# Altium footprint library DMX512.PcbLib: 32 footprints (part 1 of 2)
Each footprint in its own frame and in the unit in brackets; x right, y up, seen from the top. Pads: shape width x height; smd on the part's side, far side on the other; paste and mask are expansions set on the pad; w line width, h text height; cw(c..) or ccw(c..) is an arc to the next point about the centre after c.
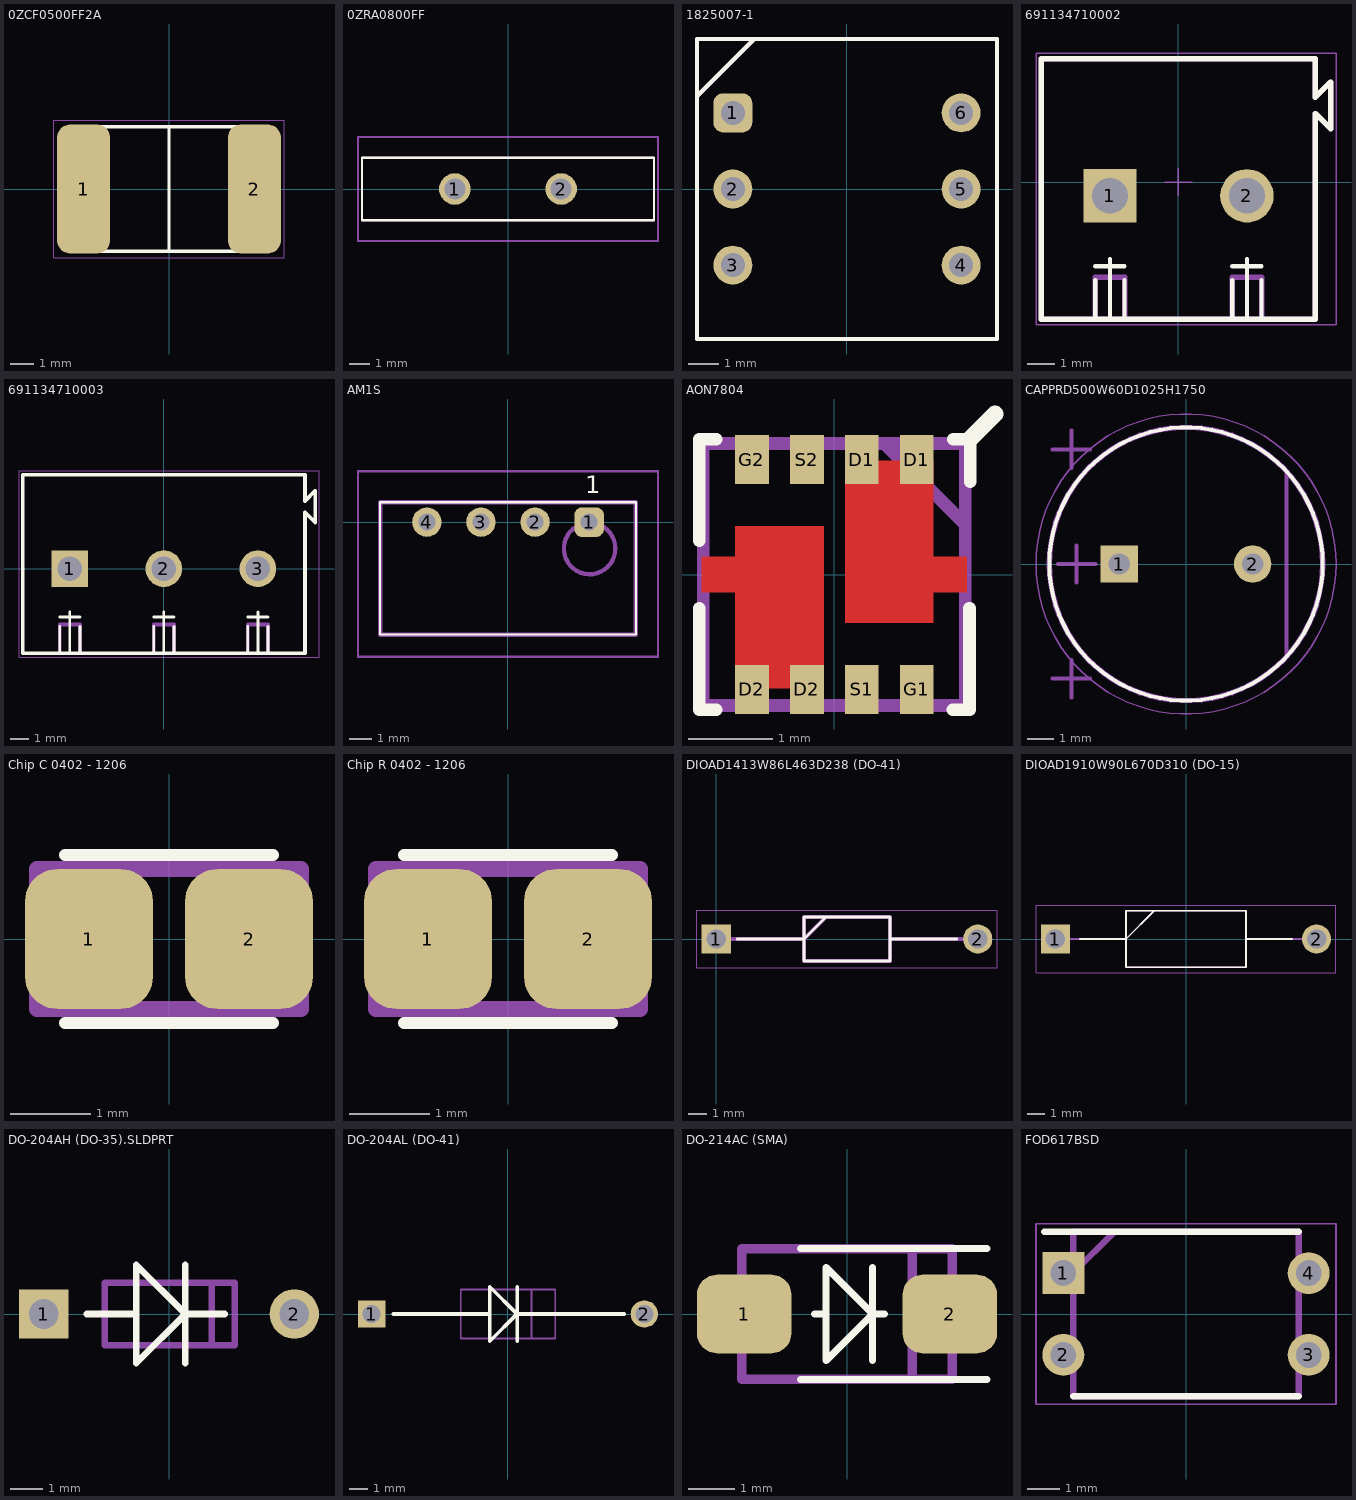
[diagram p0: the footprints below, top view; thin cyan lines are the x and y axes]

## 0ZCF0500FF2A [mm]
height 1.5
pads (2):
  rrect50% 2.3x5.6 smd: 1(-3.7,0) 2(3.7,0)
Top Overlay:
  lines w0.15: 0,-2.7 0,2.7 ; -4,-2.7 4,-2.7 4,2.7 -4,2.7 -4,-2.7
Mechanical 13:
  lines w0.1: -4,-2.7 4,-2.7 4,2.7 -4,2.7 -4,-2.7
Mechanical 15:
  lines w0.05: -5,-2.975 5,-2.975 5,2.975 -5,2.975 -5,-2.975
3D body "0ZCF0300AF2C.stp": height 1.15, standoff 0, extent -3.677,-2.56 3.678,2.56

## 0ZRA0800FF [mm]
height 20.9
pads (2):
  round 1.515 hole 1.01: 1(-2.55,0) 2(2.55,0)
Top Overlay:
  lines w0.1: -7,-1.5 7,-1.5 7,1.5 -7,1.5 -7,-1.5
Mechanical 13:
  lines w0.1: -7,-1.5 7,-1.5 7,1.5 -7,1.5 -7,-1.5
Mechanical 15:
  lines w0.1: -7.2,-2.5 7.2,-2.5 7.2,2.5 -7.2,2.5 -7.2,-2.5
3D body "User Library-MF-R300.step": height 16, standoff -9.9, extent -6,-1.5 6,1.54

## 1825007-1 [mm]
pads (6):
  rrect50% 1.3x1.3 hole 0.8: 1(-3.81,2.54)
  round 1.3 hole 0.8: 2(-3.81,0) 3(-3.81,-2.54) 4(3.81,-2.54) 5(3.81,0) 6(3.81,2.54)
Top Overlay:
  lines w0.15: -5,3.1 -3.1,5 ; -5.004,-5.004 -5.004,5.004 5.004,5.004 5.004,-5.004 -5.004,-5.004
Mechanical 13:
  lines w0.15: -5,3.1 -3.1,5 ; -5.004,-5.004 -5.004,5.004 5.004,5.004 5.004,-5.004 -5.004,-5.004
3D body "c-1825007-1-a-3d.stp": height 5.99, standoff -3.71, extent -5.004,-5.004 5.004,5.004

## 691134710002 [mm] "Serie 1347 - 5.00 mm_2 pins"
height 13
pads (2):
  rect 1.95x1.95 hole 1.3: 1(-2.5,-0.5)
  round 1.95 hole 1.3: 2(2.5,-0.5)
Top Overlay:
  lines w0.15: -3.037,-5 -3.037,-3.569 ; -3.037,-3.069 -2.5,-3.069 -1.963,-3.069 ; -2.5,-5 -2.5,-2.8 ; -1.963,-5 -1.963,-3.569 ; 1.963,-5 1.963,-3.569 ; 1.963,-3.069 2.5,-3.069 3.037,-3.069 ; 2.5,-5 2.5,-2.8 ; 3.037,-5 3.037,-3.569
  lines w0.2: -5,-5 -5,4.5 5,4.5 5,3.1 5.55,3.65 5.55,1.95 5,2.5 5,-5 -5,-5
Mechanical 13:
  lines w0.2: -3.037,-5 -3.037,-3.469 -2.5,-3.469 -1.963,-3.469 -1.963,-5 ; 1.963,-5 1.963,-3.469 2.5,-3.469 3.037,-3.469 3.037,-5 ; -5,-5 5,-5 5,2.5 5.55,1.95 5.55,3.65 5,3.1 5,4.5 -5,4.5 -5,-5
Mechanical 15:
  lines w0.05: -0.5,0 0.5,0 ; 0,-0.5 0,0.5 ; -5.2,-5.2 5.75,-5.2 5.75,4.7 -5.2,4.7 -5.2,-5.2
3D body "691134710002.stp": height 13.1, standoff -3.9, extent -5,-4.5 5.55,4.5

## 691134710003 [mm] "Serie 1347 - 5.00 mm_3 pins"
height 13
pads (3):
  rect 1.95x1.95 hole 1.3: 1(-5,0)
  round 1.95 hole 1.3: 2(0,0) 3(5,0)
Top Overlay:
  lines w0.15: -5.537,-4.5 -5.537,-3.069 ; -5.537,-2.569 -5,-2.569 -4.463,-2.569 ; -5,-4.5 -5,-2.3 ; -4.463,-4.5 -4.463,-3.069 ; -0.537,-4.5 -0.537,-3.069 ; -0.537,-2.569 0,-2.569 0.537,-2.569 ; 0,-4.5 0,-2.3 ; 0.537,-4.5 0.537,-3.069 ; 4.463,-4.5 4.463,-3.069 ; 4.463,-2.569 5,-2.569 5.537,-2.569 ; 5,-4.5 5,-2.3 ; 5.537,-4.5 5.537,-3.069
  lines w0.2: -7.5,-4.5 -7.5,5 7.5,5 7.5,3.6 8.05,4.15 8.05,2.45 7.5,3 7.5,-4.5 -7.5,-4.5
Mechanical 13:
  lines w0.1: -7.5,-4.5 -7.5,5 7.5,5 7.5,3.6 8.05,4.15 8.05,2.45 7.5,3 7.5,-4.5 -7.5,-4.5
  lines w0.2: -5.537,-4.5 -5.537,-2.969 -5,-2.969 -4.463,-2.969 -4.463,-4.5 ; -0.537,-4.5 -0.537,-2.969 0,-2.969 0.537,-2.969 0.537,-4.5 ; 4.463,-4.5 4.463,-2.969 5,-2.969 5.537,-2.969 5.537,-4.5
Mechanical 15:
  lines w0.05: -0.5,0.5 0.5,0.5 ; 0,0 0,1 ; -7.7,-4.7 -7.7,5.2 8.25,5.2 8.25,-4.7 -7.7,-4.7
3D body "691134710003.stp": height 13.1, standoff -3.9, extent -7.5,-4 8.05,5

## AM1S [mm]
pads (4):
  rrect50% 1.337x1.337 hole 0.78: 1(3.675,0)
  round 1.337 hole 0.78: 2(1.225,0) 3(-1.225,0) 4(-3.675,0)
Top Overlay:
  lines w0.1: -5.8,-5.1 5.8,-5.1 5.8,0.9 -5.8,0.9 -5.8,-5.1
  text "1" at 3.5,1.3 h0.8
Mechanical 13:
  circle w0.2: c3.7,-1.2 r1.166
  lines w0.2: -5.8,-5.1 5.8,-5.1 5.8,0.9 -5.8,0.9 -5.8,-5.1
Mechanical 15:
  lines w0.1: -6.8,-6.1 6.8,-6.1 6.8,2.3 -6.8,2.3 -6.8,-6.1
3D body "User Library-AM1S-Z.step": height 10.15, standoff -3.05, extent -5.842,-5.2 5.842,0.9

## AON7804 [mm]
pads (8):
  rect 0.4x0.58 smd: D1(0.325,1.36) D1(0.975,1.36) D2(-0.975,-1.36) D2(-0.325,-1.36) G1(0.975,-1.36) G2(-0.975,1.36) S1(0.325,-1.36) S2(-0.325,1.36)
Top Layer:
  rectangle: 0.125,-0.575 1.175,1.35
  rectangle: 1.1,-0.215 1.572,0.215
  region: -0.125,0.575 -1.175,0.575 -1.175,-1.35 -0.125,-1.35
  region: -1.1,0.215 -1.572,0.215 -1.572,-0.215 -1.1,-0.215
Top Overlay:
  lines w0.15: -1.6,0.4 -1.6,1.6 -1.4,1.6 ; -1.597,-0.398 -1.597,-1.598 -1.397,-1.598 ; 1.4,-1.6 1.6,-1.6 1.6,-0.4 ; 1.408,1.602 1.608,1.602 1.608,1.1
  lines w0.2: 1.6,1.6 1.9,1.9
Top Paste:
  region: -0.125,0.575 -1.175,0.575 -1.175,-1.35 -0.125,-1.35
  region: -1.1,0.215 -1.572,0.215 -1.572,-0.215 -1.1,-0.215
  rectangle: 0.125,-0.575 1.175,1.35
  rectangle: 1.1,-0.215 1.572,0.215
Top Solder:
  region: -0.125,0.575 -1.175,0.575 -1.175,-1.35 -0.125,-1.35
  region: -1.1,0.215 -1.572,0.215 -1.572,-0.215 -1.1,-0.215
  rectangle: 0.125,-0.575 1.175,1.35
  rectangle: 1.1,-0.215 1.572,0.215
Mechanical 13:
  lines w0.15: 0.59,1.55 1.55,0.59 ; -1.55,-1.55 -1.55,1.55 1.55,1.55 1.55,-1.55 -1.55,-1.55
3D body: height 0.9, standoff 0, extent -1.55,-1.55 1.55,1.55

## CAPPRD500W60D1025H1750 [mm]
pads (2):
  rect 1.4x1.4 hole 0.8: 1(-2.5,0)
  round 1.4 hole 0.8: 2(2.5,0)
Top Overlay:
  circle w0.15: c0,0 r5.125
Bottom Overlay:
  lines w0.15: -5,-4.3 -3.6,-4.3 ; -5,4.3 -3.6,4.3 ; -4.8,0 -3.4,0 ; -4.3,-5 -4.3,-3.6 ; -4.3,3.6 -4.3,5 ; -4.1,-0.7 -4.1,0.7 ; 3.776,-3.466 3.776,3.465
Mechanical 13:
  circle w0.2: c0,0 r5.125
  lines w0.15: -5,-4.3 -3.6,-4.3 ; -5,4.3 -3.6,4.3 ; -4.8,0 -3.4,0 ; -4.3,-5 -4.3,-3.6 ; -4.3,3.6 -4.3,5 ; -4.1,-0.7 -4.1,0.7 ; 3.776,-3.466 3.776,3.465
Mechanical 15:
  circle w0.05: c0,0 r5.625
3D body "User Library-CE_R200_D400_H800.step": height 20.32, standoff -2.9, extent -5.08,-5.079 5.08,5.08

## Chip C 0402 - 1206 [mm]
height 0.61
pads (2):
  rrect50% 1.6x1.75 smd: 1(-1,0) 2(1,0)
Top Overlay:
  lines w0.15: -1.3,-1.05 1.3,-1.05 ; -1.3,1.05 1.3,1.05
Mechanical 13:
  lines w0.2: -1.65,-0.875 1.65,-0.875 1.65,0.875 -1.65,0.875 -1.65,-0.875
3D body "User Library-1206 SMD Capacitor.step": height 1, standoff 0, extent -1.6,-0.8 1.6,0.8

## Chip R 0402 - 1206 [mm]
height 0.61
pads (2):
  rrect50% 1.6x1.75 smd: 1(-1,0) 2(1,0)
Top Overlay:
  lines w0.15: -1.3,-1.05 1.3,-1.05 ; -1.3,1.05 1.3,1.05
Mechanical 13:
  lines w0.2: -1.65,-0.875 1.65,-0.875 1.65,0.875 -1.65,0.875 -1.65,-0.875
3D body "User Library-RES_SMD-1 (2).step": height 0.7, standoff 0, extent -1.625,-0.825 1.625,0.825

## DIOAD1413W86L463D238 (DO-41) [mm]
pads (2):
  rect 1.575x1.575 hole 1.05: 1(0,0)
  round 1.575 hole 1.05: 2(14.1,0)
Top Overlay:
  lines w0.15: 1.138,0 4.735,0 5.922,1.188 ; 9.365,0 12.962,0 ; 4.735,-1.188 4.735,1.188 9.365,1.188 9.365,-1.188 4.735,-1.188
Mechanical 13:
  lines w0.2: 0,0 4.735,0 5.923,1.188 ; 9.365,0 14.1,0 ; 4.735,-1.187 4.735,1.188 9.365,1.188 9.365,-1.187 4.735,-1.187
Mechanical 15:
  lines w0.05: -1.038,-1.537 -1.038,1.538 15.137,1.538 15.137,-1.537 -1.038,-1.537
3D body "1N4005.stp": height 2.71, standoff -2.72, extent -0.427,-1.357 14.56,1.357

## DIOAD1910W90L670D310 (DO-15) [mm]
pads (2):
  rect 1.65x1.65 hole 1.1: 1(-7.4,0)
  round 1.65 hole 1.1: 2(7.4,0)
Top Overlay:
  lines w0.1: -6,0 -3.4,0 -1.8,1.6 ; 3.4,0 6,0 ; -3.4,-1.6 3.4,-1.6 3.4,1.6 -3.4,1.6 -3.4,-1.6
Mechanical 13:
  lines w0.1: -7.4,0 -3.4,0 -1.8,1.6 ; 3.4,0 7.4,0 ; -3.4,-1.6 -3.4,1.6 3.4,1.6 3.4,-1.6 -3.4,-1.6
Mechanical 15:
  lines w0.05: -8.5,-1.9 8.5,-1.9 8.5,1.9 -8.5,1.9 -8.5,-1.9
3D body: height 3.2, standoff 0, extent -3.4,-1.6 3.4,1.6
3D body: height 1.6, standoff 0, extent -7.799,-0.397 -7.001,0.4
3D body: height 2, standoff 1.2, extent -7.4,-0.395 -3.4,0.402
3D body: height 1.6, standoff 0, extent 7.001,-0.397 7.799,0.4
3D body: height 2, standoff 1.2, extent 3.4,-0.398 7.4,0.398

## DO-204AH (DO-35).SLDPRT [mm] "Diode, Axial; Body 3.8 x 1.9 mm (LxDia. max), Lead Dia. 0.53 mm (max)"
height 1.9
pads (2):
  rect 1.5x1.5 hole 0.9: 1(-3.81,0)
  round 1.5 hole 0.9: 2(3.81,0)
Top Overlay:
  lines w0.2: -2.5,0 -1,0 ; 0.5,-1.5 0.5,1.5 ; 1.7,0 0.5,0 ; 0.5,0 -1,1.5 -1,-1.5 0.5,0
Mechanical 13:
  lines w0.2: 1.3,-0.9 1.3,0.95 ; 1.95,-0.95 -1.95,-0.95 -1.95,0.95 1.95,0.95 ; 2,-0.95 2,0.95
3D body "DO-204AH (DO-35).SLDPRT": height 2.21, standoff -1.8, extent -4.07,-1.01 4.069,1.002

## DO-204AL (DO-41) [mm]
height 1.9
pads (2):
  rect 1.5x1.5 hole 1: 1(-7.5,0)
  round 1.5 hole 1: 2(7.5,0)
Top Overlay:
  lines w0.2: -6.3,0 -1,0 ; 0.5,-1.5 0.5,1.5 ; 6.4,0 0.5,0 ; 0.5,0 -1,1.5 -1,-1.5 0.5,0
Mechanical 13:
  lines w0.1: -6.3,0 -2.6,0 ; 1.3,-1.35 1.3,1.35 ; 2.6,0 6.3,0 ; -2.6,-1.35 -2.6,1.35 2.6,1.35 2.6,-1.35 -2.6,-1.35
3D body "User Library-DO-41(DO-204AL).STEP": height 3.2, standoff -2.5, extent -7.932,-1.355 7.931,1.355

## DO-214AC (SMA) [mm] "DO-214AC (SMA)"
height 2.29
pads (2):
  rrect50% 2.02x1.68 smd: 1(-2.2,0) 2(2.2,0)
Top Overlay:
  lines w0.15: -1,-1.4 3,-1.4 ; -1,1.4 3,1.4 ; -0.7,0 -0.45,0 ; 0.55,-1 0.55,1 ; 0.8,0 0.55,0 ; 0.55,0 -0.45,1 -0.45,-1 0.55,0
Mechanical 13:
  lines w0.2: 1.4,-1.395 1.4,1.395 ; -2.25,-1.395 2.25,-1.395 2.25,1.395 -2.25,1.395 -2.25,-1.395
3D body "DO-214AC (SMA).STEP": height 2.3, standoff -0.1, extent -2.6,-1.3 2.6,1.3

## FOD617BSD [mm]
pads (4):
  rect 1.3x1.3 hole 0.8: 1(-3.81,1.27)
  round 1.3 hole 0.8: 2(-3.81,-1.27) 3(3.81,-1.27) 4(3.81,1.27)
Top Overlay:
  lines w0.2: -4.41,2.55 3.5,2.55 ; -3.5,-2.55 3.5,-2.55
Mechanical 13:
  lines w0.2: -3.5,1.28 -2.23,2.55 ; -3.5,-2.55 3.5,-2.55 3.5,2.55 -3.5,2.55 -3.5,-2.55
Mechanical 15:
  lines w0.05: -4.66,-2.8 4.66,-2.8 4.66,2.8 -4.66,2.8 -4.66,-2.8
3D body "FOD814.stp": height 4.4, standoff -3.5, extent -3.96,-2.3 3.96,2.3